# Altium schematic symbol library CONN-SPE-3P_MOLEX_436500324.SchLib: 1 symbol
Pins are listed as number, name and electrical type; pins without a type are passive.

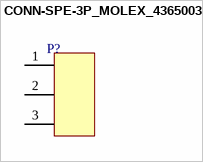
[diagram p0: symbol CONN-SPE-3P_MOLEX_436500324]

## CONN-SPE-3P_MOLEX_436500324
designator P?  (value not drawn)
pins: 1, 2, 3